# Altium schematic symbol library TL431.SchLib: 1 symbol
Pins are listed as number, name and electrical type; pins without a type are passive.

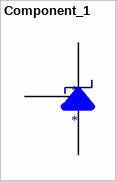
[diagram p0: symbol Component_1]

## Component_1
designator *
pins: ANODE 2, CATHODE 3, REF 1